# Altium footprint library QFN20-SPE-LTC3885.PcbLib: 1 footprints
Each footprint in its own frame and in the unit in brackets; x right, y up, seen from the top. Pads: shape width x height; smd on the part's side, far side on the other; paste and mask are expansions set on the pad; w line width, h text height; cw(c..) or ccw(c..) is an arc to the next point about the centre after c.
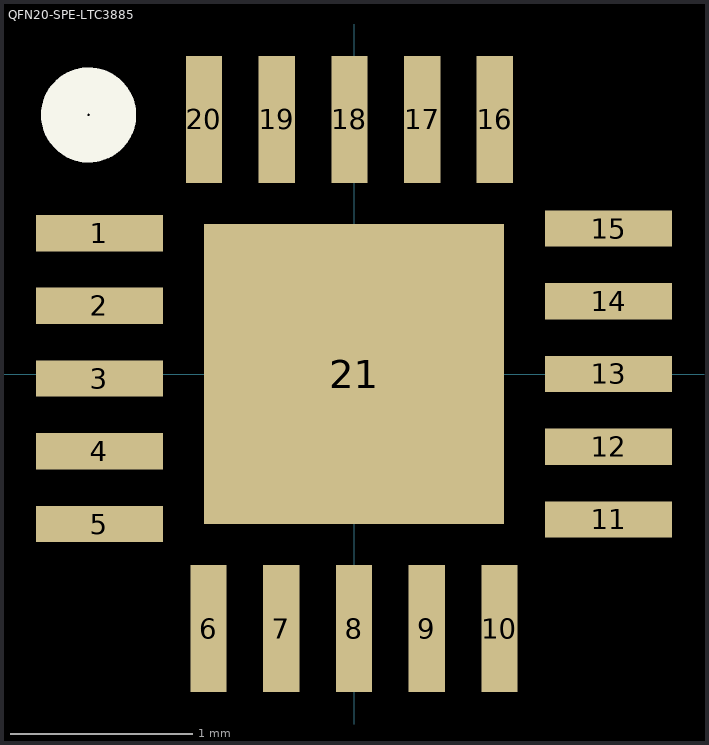
[diagram p0: the footprint, top view; thin cyan lines are the x and y axes]

## QFN20-SPE-LTC3885 [mm]
pads (21):
  rect 0.7x0.2 smd: 1(-1.4,0.775) 2(-1.4,0.375) 3(-1.4,-0.025) 4(-1.4,-0.425) 5(-1.4,-0.825) 11(1.4,-0.8) 12(1.4,-0.4) 13(1.4,0) 14(1.4,0.4) 15(1.4,0.8)
  rect 0.2x0.7 smd: 6(-0.8,-1.4) 7(-0.4,-1.4) 8(0,-1.4) 9(0.4,-1.4) 10(0.8,-1.4) 16(0.775,1.4) 17(0.375,1.4) 18(-0.025,1.4) 19(-0.425,1.4) 20(-0.825,1.4)
  rect 1.65x1.65 smd: 21(0,0)
Top Overlay:
  circle w0.254: c-1.46,1.425 r0.135
3D body: height 1, standoff 0, extent -1.85,-1.85 1.85,1.85